# Altium integrated library Analog Devices Audio and Video Video Amps, Buffers and Filters.IntLib: 89 symbols (part 1 of 5)
Pins are listed as number, name and electrical type; pins without a type are passive.

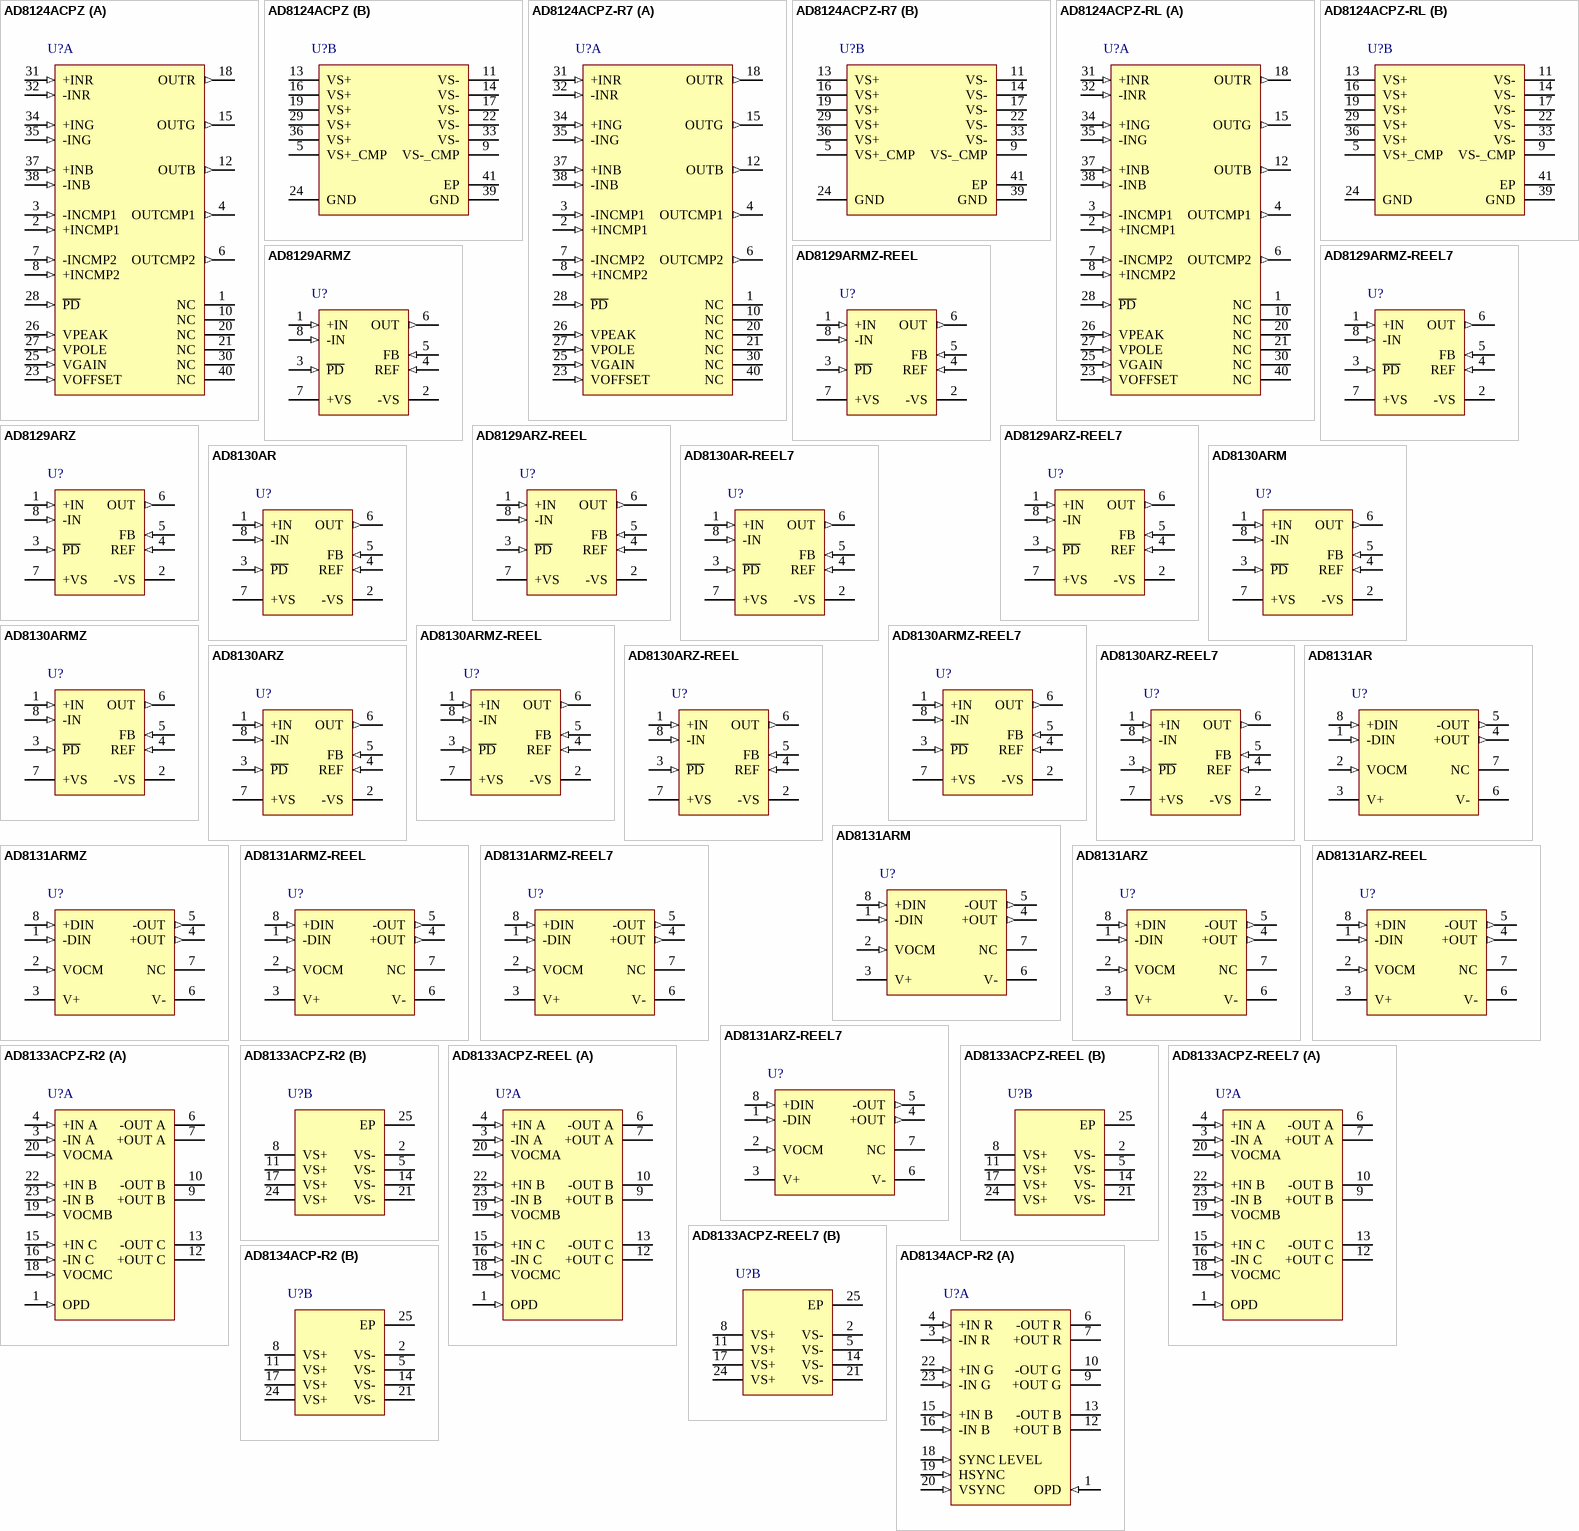
[diagram p0: symbols AD8124ACPZ to AD8134ACP-R2]

## AD8124ACPZ
designator U?
Triple Differential Receiver with 200 Meter Adjustable Cable Equalization, 4.5 to 5.5 V Supply, 110 MHz Bandwidth, 40-pin QFN (CP-40-4), Tray; Manufacturer: Analog Devices; PartNumber: AD8124ACPZ; -3dB Bandwidth: 52MHz; Max Pos Supply: 5.5V; Min Pos Supply: 4.5V; DatasheetVersion: Rev. 0; PackageVersion: 080107-A, 08/2007; PackageReference: CP-40-4; PackageDescription: 40-Pin Lead Frame Chip Scale Package, Body 6 x 6 mm, Pitch 0.5 mm; Supplier 1: Digi-Key; Supplier Part Number 1: AD8124ACPZ-ND; Supplier 2: Farnell; Supplier Part Number 2: 1897105; Supplier 3: Newark; Supplier Part Number 3: 31T9312; Supplier 4: Mouser; Supplier Part Number 4: 584-AD8124ACPZ; Packing: Tray; Mounting Technology: Surface Mount; Code_JEDEC: MO-220-VJJD-2; ComponentLink1Description: Manufacturer URL; ComponentLink1URL: http://www.analog.com/en/index.html; ComponentLink2Description: Datasheet; ComponentLink2URL: http://www.analog.com/static/imported-files/data_sheets/AD8124.pdf; ComponentLink3Description: Package Specification; ComponentLink3URL: http:/www.analog.com/static/imported-files/packages/5297332792203067151CP_40_4.pdf; ComponentLink4Description: URL Link1; ComponentLink4URL: Product URL:http://www.analog.com/en/specialty-amplifiers/video-ampsbuffersfilters/ad8124/products/product.html
footprint ADI-CP-40-4_N (QFN, 40-Leads, Body 6x6mm, Pitch 0.5mm, Thermal Pad 4.3x4.3mm, IPC Medium Density)
footprint ADI-CP-40-4_L (QFN, 40-Leads, Body 6x6mm, Pitch 0.5mm, Thermal Pad 4.3x4.3mm, IPC High Density)
footprint ADI-CP-40-4_M (QFN, 40-Leads, Body 6x6mm, Pitch 0.5mm, Thermal Pad 4.3x4.3mm, IPC Low Density)
part A pins: 1 NC "No Internal Connection.", 2 +INCMP1 (in) "Positive Input, Comparator 1.", 3 -INCMP1 (in) "Negative Input, Comparator 1.", 4 OUTCMP1 (out) "Output, Comparator 1.", 6 OUTCMP2 (out) "Output, Comparator 2.", 7 -INCMP2 (in) "Negative Input, Comparator 2.", 8 +INCMP2 (in) "Positive Input, Comparator 2.", 10 NC "No Internal Connection.", 12 OUTB (out) "Output, Blue Channel.", 15 OUTG (out) "Output, Green Channel.", 18 OUTR (out) "Output, Red Channel.", 20 NC "No Internal Connection.", 21 NC "No Internal Connection.", 23 VOFFSET (in) "Output Offset Control Voltage.", 25 VGAIN (in) "Broadband Flat Gain Control Voltage.", 26 VPEAK (in) "Equalizer High Frequency Boost Control Voltage.", 27 VPOLE (in) "Equalizer Pole Location Adjustment Control Voltage.", 28 ~{PD} (in) "Power Down.", 30 NC "No Internal Connection.", 31 +INR (in) "Positive Input, Red Channel.", 32 -INR (in) "Negative Input, Red Channel.", 34 +ING (in) "Positive Input, Green Channel.", 35 -ING (in) "Negative Input, Green Channel.", 37 +INB (in) "Positive Input, Blue Channel.", 38 -INB (in) "Negative Input, Blue Channel.", 40 NC "No Internal Connection."
part B pins: 5 VS+_CMP (power) "Positive Power Supply, Comparator. Must be connected to VS+.", 9 VS-_CMP (power) "Negative Power Supply, Comparator. Must be connected to VS-.", 11 VS- (power) "Negative Power Supply, Equalizer Sections.", 13 VS+ (power) "Positive Power Supply, Equalizer Sections.", 14 VS- (power) "Negative Power Supply, Equalizer Sections.", 16 VS+ (power) "Positive Power Supply, Equalizer Sections.", 17 VS- (power) "Negative Power Supply, Equalizer Sections.", 19 VS+ (power) "Positive Power Supply, Equalizer Sections.", 22 VS- (power) "Negative Power Supply, Equalizer Sections.", 24 GND (power) "Signal Ground Reference.", 29 VS+ (power) "Positive Power Supply, Equalizer Sections.", 33 VS- (power) "Negative Power Supply, Equalizer Sections.", 36 VS+ (power) "Positive Power Supply, Equalizer Sections.", 39 GND (power) "Signal Ground Reference.", 41 EP "Thermal Plane Connection. Connect to any PCB plane with voltage between VS+ and VS-."

## AD8124ACPZ-R7
designator U?
Triple Differential Receiver with 200 Meter Adjustable Cable Equalization, 4.5 to 5.5 V Supply, 110 MHz Bandwidth, 40-pin QFN (CP-40-4), Reel; Manufacturer: Analog Devices; PartNumber: AD8124ACPZ-R7; -3dB Bandwidth: 52MHz; Max Pos Supply: 5.5V; Min Pos Supply: 4.5V; DatasheetVersion: Rev. 0; PackageVersion: 080107-A, 08/2007; PackageReference: CP-40-4; PackageDescription: 40-Pin Lead Frame Chip Scale Package, Body 6 x 6 mm, Pitch 0.5 mm; Supplier 1: Digi-Key; Supplier Part Number 1: AD8124ACPZ-R7-ND; Supplier 2: Newark; Supplier Part Number 2: 31T9313; Supplier 3: Mouser; Supplier Part Number 3: 584-AD8124ACPZ-R7; Packing: Reel; Mounting Technology: Surface Mount; Code_JEDEC: MO-220-VJJD-2; ComponentLink1Description: Manufacturer URL; ComponentLink1URL: http://www.analog.com/en/index.html; ComponentLink2Description: Datasheet; ComponentLink2URL: http://www.analog.com/static/imported-files/data_sheets/AD8124.pdf; ComponentLink3Description: Package Specification; ComponentLink3URL: http:/www.analog.com/static/imported-files/packages/5297332792203067151CP_40_4.pdf; ComponentLink4Description: URL Link1; ComponentLink4URL: Product URL:http://www.analog.com/en/specialty-amplifiers/video-ampsbuffersfilters/ad8124/products/product.html
footprint ADI-CP-40-4_N (QFN, 40-Leads, Body 6x6mm, Pitch 0.5mm, Thermal Pad 4.3x4.3mm, IPC Medium Density)
footprint ADI-CP-40-4_L (QFN, 40-Leads, Body 6x6mm, Pitch 0.5mm, Thermal Pad 4.3x4.3mm, IPC High Density)
footprint ADI-CP-40-4_M (QFN, 40-Leads, Body 6x6mm, Pitch 0.5mm, Thermal Pad 4.3x4.3mm, IPC Low Density)
part A pins: 1 NC "No Internal Connection.", 2 +INCMP1 (in) "Positive Input, Comparator 1.", 3 -INCMP1 (in) "Negative Input, Comparator 1.", 4 OUTCMP1 (out) "Output, Comparator 1.", 6 OUTCMP2 (out) "Output, Comparator 2.", 7 -INCMP2 (in) "Negative Input, Comparator 2.", 8 +INCMP2 (in) "Positive Input, Comparator 2.", 10 NC "No Internal Connection.", 12 OUTB (out) "Output, Blue Channel.", 15 OUTG (out) "Output, Green Channel.", 18 OUTR (out) "Output, Red Channel.", 20 NC "No Internal Connection.", 21 NC "No Internal Connection.", 23 VOFFSET (in) "Output Offset Control Voltage.", 25 VGAIN (in) "Broadband Flat Gain Control Voltage.", 26 VPEAK (in) "Equalizer High Frequency Boost Control Voltage.", 27 VPOLE (in) "Equalizer Pole Location Adjustment Control Voltage.", 28 ~{PD} (in) "Power Down.", 30 NC "No Internal Connection.", 31 +INR (in) "Positive Input, Red Channel.", 32 -INR (in) "Negative Input, Red Channel.", 34 +ING (in) "Positive Input, Green Channel.", 35 -ING (in) "Negative Input, Green Channel.", 37 +INB (in) "Positive Input, Blue Channel.", 38 -INB (in) "Negative Input, Blue Channel.", 40 NC "No Internal Connection."
part B pins: 5 VS+_CMP (power) "Positive Power Supply, Comparator. Must be connected to VS+.", 9 VS-_CMP (power) "Negative Power Supply, Comparator. Must be connected to VS-.", 11 VS- (power) "Negative Power Supply, Equalizer Sections.", 13 VS+ (power) "Positive Power Supply, Equalizer Sections.", 14 VS- (power) "Negative Power Supply, Equalizer Sections.", 16 VS+ (power) "Positive Power Supply, Equalizer Sections.", 17 VS- (power) "Negative Power Supply, Equalizer Sections.", 19 VS+ (power) "Positive Power Supply, Equalizer Sections.", 22 VS- (power) "Negative Power Supply, Equalizer Sections.", 24 GND (power) "Signal Ground Reference.", 29 VS+ (power) "Positive Power Supply, Equalizer Sections.", 33 VS- (power) "Negative Power Supply, Equalizer Sections.", 36 VS+ (power) "Positive Power Supply, Equalizer Sections.", 39 GND (power) "Signal Ground Reference.", 41 EP "Thermal Plane Connection. Connect to any PCB plane with voltage between VS+ and VS-."

## AD8124ACPZ-RL
designator U?
Triple Differential Receiver with 200 Meter Adjustable Cable Equalization, 4.5 to 5.5 V Supply, 110 MHz Bandwidth, Industrial, 40-pin QFN (CP-40-4), Reel; Manufacturer: Analog Devices; PartNumber: AD8124ACPZ-RL; -3dB Bandwidth: 52MHz; Max Pos Supply: 5.5V; Min Pos Supply: 4.5V; DatasheetVersion: Rev. 0; PackageVersion: 080107-A, 08/2007; PackageReference: CP-40-4; PackageDescription: 40-Pin Lead Frame Chip Scale Package, Body 6 x 6 mm, Pitch 0.5 mm; Supplier 1: Mouser; Supplier Part Number 1: N/A; Packing: Reel; Mounting Technology: Surface Mount; Code_JEDEC: MO-220-VJJD-2; ComponentLink1Description: Manufacturer URL; ComponentLink1URL: http://www.analog.com/en/index.html; ComponentLink2Description: Datasheet; ComponentLink2URL: http://www.analog.com/static/imported-files/data_sheets/AD8124.pdf; ComponentLink3Description: Package Specification; ComponentLink3URL: http:/www.analog.com/static/imported-files/packages/5297332792203067151CP_40_4.pdf; ComponentLink4Description: URL Link1; ComponentLink4URL: Product URL:http://www.analog.com/en/specialty-amplifiers/video-ampsbuffersfilters/ad8124/products/product.html
footprint ADI-CP-40-4_N (QFN, 40-Leads, Body 6x6mm, Pitch 0.5mm, Thermal Pad 4.3x4.3mm, IPC Medium Density)
footprint ADI-CP-40-4_L (QFN, 40-Leads, Body 6x6mm, Pitch 0.5mm, Thermal Pad 4.3x4.3mm, IPC High Density)
footprint ADI-CP-40-4_M (QFN, 40-Leads, Body 6x6mm, Pitch 0.5mm, Thermal Pad 4.3x4.3mm, IPC Low Density)
part A pins: 1 NC "No Internal Connection.", 2 +INCMP1 (in) "Positive Input, Comparator 1.", 3 -INCMP1 (in) "Negative Input, Comparator 1.", 4 OUTCMP1 (out) "Output, Comparator 1.", 6 OUTCMP2 (out) "Output, Comparator 2.", 7 -INCMP2 (in) "Negative Input, Comparator 2.", 8 +INCMP2 (in) "Positive Input, Comparator 2.", 10 NC "No Internal Connection.", 12 OUTB (out) "Output, Blue Channel.", 15 OUTG (out) "Output, Green Channel.", 18 OUTR (out) "Output, Red Channel.", 20 NC "No Internal Connection.", 21 NC "No Internal Connection.", 23 VOFFSET (in) "Output Offset Control Voltage.", 25 VGAIN (in) "Broadband Flat Gain Control Voltage.", 26 VPEAK (in) "Equalizer High Frequency Boost Control Voltage.", 27 VPOLE (in) "Equalizer Pole Location Adjustment Control Voltage.", 28 ~{PD} (in) "Power Down.", 30 NC "No Internal Connection.", 31 +INR (in) "Positive Input, Red Channel.", 32 -INR (in) "Negative Input, Red Channel.", 34 +ING (in) "Positive Input, Green Channel.", 35 -ING (in) "Negative Input, Green Channel.", 37 +INB (in) "Positive Input, Blue Channel.", 38 -INB (in) "Negative Input, Blue Channel.", 40 NC "No Internal Connection."
part B pins: 5 VS+_CMP (power) "Positive Power Supply, Comparator. Must be connected to VS+.", 9 VS-_CMP (power) "Negative Power Supply, Comparator. Must be connected to VS-.", 11 VS- (power) "Negative Power Supply, Equalizer Sections.", 13 VS+ (power) "Positive Power Supply, Equalizer Sections.", 14 VS- (power) "Negative Power Supply, Equalizer Sections.", 16 VS+ (power) "Positive Power Supply, Equalizer Sections.", 17 VS- (power) "Negative Power Supply, Equalizer Sections.", 19 VS+ (power) "Positive Power Supply, Equalizer Sections.", 22 VS- (power) "Negative Power Supply, Equalizer Sections.", 24 GND (power) "Signal Ground Reference.", 29 VS+ (power) "Positive Power Supply, Equalizer Sections.", 33 VS- (power) "Negative Power Supply, Equalizer Sections.", 36 VS+ (power) "Positive Power Supply, Equalizer Sections.", 39 GND (power) "Signal Ground Reference.", 41 EP "Thermal Plane Connection. Connect to any PCB plane with voltage between VS+ and VS-."

## AD8129ARMZ
designator U?
Low Cost Differential Receiver Amplifier, 2.25 to 12.6 V Supply, 200 MHz Bandwidth, Industrial, 8-pin SOP (RM-8), Tube; Manufacturer: Analog Devices; PartNumber: AD8129ARMZ; -3dB Bandwidth: 185MHz, 190MHz, 195MHz; 0.1 dB Flatness (MHz): 40, 50, 70; Max Pos Supply: 12.6V, 12.6V, 12.6V; Min Pos Supply: 2.25V, 2.25V, 2.25V; Minimum Gain (Acl): 10; Slew Rate (V/us): 930, 1060, 1070; DatasheetVersion: Rev. C; PackageVersion: Aug-05; PackageReference: RM-8; PackageDescription: 8-Pin Mini Small Outline Package, Body 3 x 3 mm, Pitch 0.65 mm; Supplier 1: Digi-Key; Supplier Part Number 1: AD8129ARMZ-ND; Supplier 2: Farnell; Supplier Part Number 2: 1651275; Supplier 3: Newark; Supplier Part Number 3: 59K6384; Supplier 4: Mouser; Supplier Part Number 4: 584-AD8129ARMZ; Packing: Tube; Mounting Technology: Surface Mount; Code_JEDEC: MO-187-AA; ComponentLink1Description: Manufacturer URL; ComponentLink1URL: http://www.analog.com/en/index.html; ComponentLink2Description: Datasheet; ComponentLink2URL: http://www.analog.com/static/imported-files/data_sheets/AD8129_8130.pdf; ComponentLink3Description: Package Specification; ComponentLink3URL: http://www.analog.com/static/imported-files/packages/PKG_PDF/MSOP%28RM%29/RM_8.pdf; ComponentLink4Description: URL Link1; ComponentLink4URL: Product URL:http://www.analog.com/en/specialty-amplifiers/video-ampsbuffersfilters/ad8129/products/product.html
footprint ADI-RM-8_N (SOP, 8-Leads, Body 3x3mm, Pitch 0.65mm, IPC Medium Density)
footprint ADI-RM-8_L (SOP, 8-Leads, Body 3x3mm, Pitch 0.65mm, IPC High Density)
footprint ADI-RM-8_M (SOP, 8-Leads, Body 3x3mm, Pitch 0.65mm, IPC Low Density)
pins: 1 +IN (in), 2 -VS (power), 3 ~{PD} (in), 4 REF (in), 5 FB (in), 6 OUT (out), 7 +VS (power), 8 -IN (in)

## AD8129ARMZ-REEL
designator U?
Low Cost Differential Receiver Amplifier, 2.25 to 12.6 V Supply, 200 MHz Bandwidth, Industrial, 8-pin SOP (RM-8), Reel; Manufacturer: Analog Devices; PartNumber: AD8129ARMZ-REEL; -3dB Bandwidth: 185MHz, 190MHz, 195MHz; 0.1 dB Flatness (MHz): 40, 50, 70; Max Pos Supply: 12.6V, 12.6V, 12.6V; Min Pos Supply: 2.25V, 2.25V, 2.25V; Minimum Gain (Acl): 10; Slew Rate (V/us): 930, 1060, 1070; DatasheetVersion: Rev. C; PackageVersion: Aug-05; PackageReference: RM-8; PackageDescription: 8-Pin Mini Small Outline Package, Body 3 x 3 mm, Pitch 0.65 mm; Supplier 1: Digi-Key; Supplier Part Number 1: AD8129ARMZ-REEL-ND; Supplier 2: Mouser; Supplier Part Number 2: 584-AD8129ARMZ-R; Packing: Reel; Mounting Technology: Surface Mount; Code_JEDEC: MO-187-AA; ComponentLink1Description: Manufacturer URL; ComponentLink1URL: http://www.analog.com/en/index.html; ComponentLink2Description: Datasheet; ComponentLink2URL: http://www.analog.com/static/imported-files/data_sheets/AD8129_8130.pdf; ComponentLink3Description: Package Specification; ComponentLink3URL: http://www.analog.com/static/imported-files/packages/PKG_PDF/MSOP%28RM%29/RM_8.pdf; ComponentLink4Description: URL Link1; ComponentLink4URL: Product URL:http://www.analog.com/en/specialty-amplifiers/video-ampsbuffersfilters/ad8129/products/product.html
footprint ADI-RM-8_N (SOP, 8-Leads, Body 3x3mm, Pitch 0.65mm, IPC Medium Density)
footprint ADI-RM-8_L (SOP, 8-Leads, Body 3x3mm, Pitch 0.65mm, IPC High Density)
footprint ADI-RM-8_M (SOP, 8-Leads, Body 3x3mm, Pitch 0.65mm, IPC Low Density)
pins: 1 +IN (in), 2 -VS (power), 3 ~{PD} (in), 4 REF (in), 5 FB (in), 6 OUT (out), 7 +VS (power), 8 -IN (in)

## AD8129ARMZ-REEL7
designator U?
Low Cost Differential Receiver Amplifier, 2.25 to 12.6 V Supply, 200 MHz Bandwidth, Industrial, 8-pin SOP (RM-8), Reel; Manufacturer: Analog Devices; PartNumber: AD8129ARMZ-REEL7; -3dB Bandwidth: 185MHz, 190MHz, 195MHz; 0.1 dB Flatness (MHz): 40, 50, 70; Max Pos Supply: 12.6V, 12.6V, 12.6V; Min Pos Supply: 2.25V, 2.25V, 2.25V; Minimum Gain (Acl): 10; Slew Rate (V/us): 930, 1060, 1070; DatasheetVersion: Rev. C; PackageVersion: Aug-05; PackageReference: RM-8; PackageDescription: 8-Pin Mini Small Outline Package, Body 3 x 3 mm, Pitch 0.65 mm; Supplier 1: Digi-Key; Supplier Part Number 1: AD8129ARMZ-REEL7-ND; Supplier 2: Mouser; Supplier Part Number 2: 584-AD8129ARMZ-R7; Packing: Reel; Mounting Technology: Surface Mount; Code_JEDEC: MO-187-AA; ComponentLink1Description: Manufacturer URL; ComponentLink1URL: http://www.analog.com/en/index.html; ComponentLink2Description: Datasheet; ComponentLink2URL: http://www.analog.com/static/imported-files/data_sheets/AD8129_8130.pdf; ComponentLink3Description: Package Specification; ComponentLink3URL: http://www.analog.com/static/imported-files/packages/PKG_PDF/MSOP%28RM%29/RM_8.pdf; ComponentLink4Description: URL Link1; ComponentLink4URL: Product URL:http://www.analog.com/en/specialty-amplifiers/video-ampsbuffersfilters/ad8129/products/product.html
footprint ADI-RM-8_N (SOP, 8-Leads, Body 3x3mm, Pitch 0.65mm, IPC Medium Density)
footprint ADI-RM-8_L (SOP, 8-Leads, Body 3x3mm, Pitch 0.65mm, IPC High Density)
footprint ADI-RM-8_M (SOP, 8-Leads, Body 3x3mm, Pitch 0.65mm, IPC Low Density)
pins: 1 +IN (in), 2 -VS (power), 3 ~{PD} (in), 4 REF (in), 5 FB (in), 6 OUT (out), 7 +VS (power), 8 -IN (in)

## AD8129ARZ
designator U?
Low Cost Differential Receiver Amplifier, 2.25 to 12.6 V Supply, 200 MHz Bandwidth, Industrial, 8-pin SOIC (R-8), Tube; Manufacturer: Analog Devices; PartNumber: AD8129ARZ; -3dB Bandwidth: 185MHz, 190MHz, 195MHz; 0.1 dB Flatness (MHz): 25, 30, 50; Max Pos Supply: 12.6V, 12.6V, 12.6V; Min Pos Supply: 2.25V, 2.25V, 2.25V; Minimum Gain (Acl): 10; Slew Rate (V/us): 930, 1060, 1070; DatasheetVersion: Rev. C; PackageVersion: 060506-A, 06/2006; PackageReference: R-8; PackageDescription: 8-Pin Standard Small Outline Package, Body 4.9 x 3.9 mm, Pitch 1.27 mm; Supplier 1: Digi-Key; Supplier Part Number 1: AD8129ARZ-ND; Supplier 2: Farnell; Supplier Part Number 2: 1651276; Supplier 3: Newark; Supplier Part Number 3: 59K6387; Supplier 4: Mouser; Supplier Part Number 4: 584-AD8129ARZ; Packing: Tube; Mounting Technology: Surface Mount; Code_JEDEC: MS-012-AA; ComponentLink1Description: Manufacturer URL; ComponentLink1URL: http://www.analog.com/en/index.html; ComponentLink2Description: Datasheet; ComponentLink2URL: http://www.analog.com/static/imported-files/data_sheets/AD8129_8130.pdf; ComponentLink3Description: Package Specification; ComponentLink3URL: http://www.analog.com/static/imported-files/packages/PKG_PDF/SOIC_Narrow%20(R)/R_8.pdf; ComponentLink4Description: URL Link1; ComponentLink4URL: Product URL:http://www.analog.com/en/specialty-amplifiers/video-ampsbuffersfilters/ad8129/products/product.html
footprint ADI-R-8_N (SOIC, 8-Leads, Body 4.9x3.9mm, Pitch 1.27mm, IPC Medium Density)
footprint ADI-R-8_L (SOIC, 8-Leads, Body 4.9x3.9mm, Pitch 1.27mm, IPC High Density)
footprint ADI-R-8_M (SOIC, 8-Leads, Body 4.9x3.9mm, Pitch 1.27mm, IPC Low Density)
pins: 1 +IN (in), 2 -VS (power), 3 ~{PD} (in), 4 REF (in), 5 FB (in), 6 OUT (out), 7 +VS (power), 8 -IN (in)

## AD8129ARZ-REEL
designator U?
Low Cost Differential Receiver Amplifier, 2.25 to 12.6 V Supply, 200 MHz Bandwidth, Industrial, 8-pin SOIC (R-8), Reel; Manufacturer: Analog Devices; PartNumber: AD8129ARZ-REEL; -3dB Bandwidth: 185MHz, 190MHz, 195MHz; 0.1 dB Flatness (MHz): 25, 30, 50; Max Pos Supply: 12.6V, 12.6V, 12.6V; Min Pos Supply: 2.25V, 2.25V, 2.25V; Minimum Gain (Acl): 10; Slew Rate (V/us): 930, 1060, 1070; DatasheetVersion: Rev. C; PackageVersion: 060506-A, 06/2006; PackageReference: R-8; PackageDescription: 8-Pin Standard Small Outline Package, Body 4.9 x 3.9 mm, Pitch 1.27 mm; Supplier 1: Digi-Key; Supplier Part Number 1: AD8129ARZ-REEL-ND; Supplier 2: Mouser; Supplier Part Number 2: 584-AD8129ARZ-R; Packing: Reel; Mounting Technology: Surface Mount; Code_JEDEC: MS-012-AA; ComponentLink1Description: Manufacturer URL; ComponentLink1URL: http://www.analog.com/en/index.html; ComponentLink2Description: Datasheet; ComponentLink2URL: http://www.analog.com/static/imported-files/data_sheets/AD8129_8130.pdf; ComponentLink3Description: Package Specification; ComponentLink3URL: http://www.analog.com/static/imported-files/packages/PKG_PDF/SOIC_Narrow%20(R)/R_8.pdf; ComponentLink4Description: URL Link1; ComponentLink4URL: Product URL:http://www.analog.com/en/specialty-amplifiers/video-ampsbuffersfilters/ad8129/products/product.html
footprint ADI-R-8_N (SOIC, 8-Leads, Body 4.9x3.9mm, Pitch 1.27mm, IPC Medium Density)
footprint ADI-R-8_L (SOIC, 8-Leads, Body 4.9x3.9mm, Pitch 1.27mm, IPC High Density)
footprint ADI-R-8_M (SOIC, 8-Leads, Body 4.9x3.9mm, Pitch 1.27mm, IPC Low Density)
pins: 1 +IN (in), 2 -VS (power), 3 ~{PD} (in), 4 REF (in), 5 FB (in), 6 OUT (out), 7 +VS (power), 8 -IN (in)

## AD8129ARZ-REEL7
designator U?
Low Cost Differential Receiver Amplifier, 2.25 to 12.6 V Supply, 200 MHz Bandwidth, Industrial, 8-pin SOIC (R-8), Reel; Manufacturer: Analog Devices; PartNumber: AD8129ARZ-REEL7; -3dB Bandwidth: 185MHz, 190MHz, 195MHz; 0.1 dB Flatness (MHz): 25, 30, 50; Max Pos Supply: 12.6V, 12.6V, 12.6V; Min Pos Supply: 2.25V, 2.25V, 2.25V; Minimum Gain (Acl): 10; Slew Rate (V/us): 930, 1060, 1070; DatasheetVersion: Rev. C; PackageVersion: 060506-A, 06/2006; PackageReference: R-8; PackageDescription: 8-Pin Standard Small Outline Package, Body 4.9 x 3.9 mm, Pitch 1.27 mm; Supplier 1: Digi-Key; Supplier Part Number 1: AD8129ARZ-REEL7-ND; Supplier 2: Mouser; Supplier Part Number 2: 584-AD8129ARZ-R7; Packing: Reel; Mounting Technology: Surface Mount; Code_JEDEC: MS-012-AA; ComponentLink1Description: Manufacturer URL; ComponentLink1URL: http://www.analog.com/en/index.html; ComponentLink2Description: Datasheet; ComponentLink2URL: http://www.analog.com/static/imported-files/data_sheets/AD8129_8130.pdf; ComponentLink3Description: Package Specification; ComponentLink3URL: http://www.analog.com/static/imported-files/packages/PKG_PDF/SOIC_Narrow%20(R)/R_8.pdf; ComponentLink4Description: URL Link1; ComponentLink4URL: Product URL:http://www.analog.com/en/specialty-amplifiers/video-ampsbuffersfilters/ad8129/products/product.html
footprint ADI-R-8_N (SOIC, 8-Leads, Body 4.9x3.9mm, Pitch 1.27mm, IPC Medium Density)
footprint ADI-R-8_L (SOIC, 8-Leads, Body 4.9x3.9mm, Pitch 1.27mm, IPC High Density)
footprint ADI-R-8_M (SOIC, 8-Leads, Body 4.9x3.9mm, Pitch 1.27mm, IPC Low Density)
pins: 1 +IN (in), 2 -VS (power), 3 ~{PD} (in), 4 REF (in), 5 FB (in), 6 OUT (out), 7 +VS (power), 8 -IN (in)

## AD8130AR
designator U?
Low Cost Differential Receiver Amplifier, 2.25 to 12.6 V Supply, 270 MHz Bandwidth, Industrial, 8-pin SOIC (R-8), Tube; Manufacturer: Analog Devices; PartNumber: AD8130AR; -3dB Bandwidth: 205MHz, 155MHz, 175MHz; 0.1 dB Flatness (MHz): 25, 45, 110; Max Pos Supply: 12.6V, 12.6V, 12.6V; Min Pos Supply: 2.25V, 2.25V, 2.25V; Minimum Gain (Acl): 1; Slew Rate (V/us): 930, 1090, 1100; DatasheetVersion: Rev. C; PackageVersion: 060506-A, 06/2006; PackageReference: R-8; PackageDescription: 8-Pin Standard Small Outline Package, Body 4.9 x 3.9 mm, Pitch 1.27 mm; Supplier 1: Digi-Key; Supplier Part Number 1: AD8130AR-ND; Supplier 2: Mouser; Supplier Part Number 2: 584-AD8130AR; Packing: Tube; Mounting Technology: Surface Mount; Code_JEDEC: MS-012-AA; ComponentLink1Description: Manufacturer URL; ComponentLink1URL: http://www.analog.com/en/index.html; ComponentLink2Description: Datasheet; ComponentLink2URL: http://www.analog.com/static/imported-files/data_sheets/AD8129_8130.pdf; ComponentLink3Description: Package Specification; ComponentLink3URL: http://www.analog.com/static/imported-files/packages/PKG_PDF/SOIC_Narrow%20(R)/R_8.pdf; ComponentLink4Description: URL Link1; ComponentLink4URL: Product URL:http://www.analog.com/en/specialty-amplifiers/video-ampsbuffersfilters/ad8130/products/product.html
footprint ADI-R-8_N (SOIC, 8-Leads, Body 4.9x3.9mm, Pitch 1.27mm, IPC Medium Density)
footprint ADI-R-8_L (SOIC, 8-Leads, Body 4.9x3.9mm, Pitch 1.27mm, IPC High Density)
footprint ADI-R-8_M (SOIC, 8-Leads, Body 4.9x3.9mm, Pitch 1.27mm, IPC Low Density)
pins: 1 +IN (in), 2 -VS (power), 3 ~{PD} (in), 4 REF (in), 5 FB (in), 6 OUT (out), 7 +VS (power), 8 -IN (in)

## AD8130AR-REEL7
designator U?
Low Cost Differential Receiver Amplifier, 2.25 to 12.6 V Supply, 270 MHz Bandwidth, Industrial, 8-pin SOIC (R-8), Reel; Manufacturer: Analog Devices; PartNumber: AD8130AR-REEL7; -3dB Bandwidth: 205MHz, 155MHz, 175MHz; 0.1 dB Flatness (MHz): 25, 45, 110; Max Pos Supply: 12.6V, 12.6V, 12.6V; Min Pos Supply: 2.25V, 2.25V, 2.25V; Minimum Gain (Acl): 1; Slew Rate (V/us): 930, 1090, 1100; DatasheetVersion: Rev. C; PackageVersion: 060506-A, 06/2006; PackageReference: R-8; PackageDescription: 8-Pin Standard Small Outline Package, Body 4.9 x 3.9 mm, Pitch 1.27 mm; Supplier 1: Digi-Key; Supplier Part Number 1: AD8130AR-REEL7TR-ND; Supplier 2: Digi-Key; Supplier Part Number 2: AD8130AR-REEL7CT-ND; Supplier 3: Digi-Key; Supplier Part Number 3: AD8130AR-REEL7DKR-ND; Supplier 4: Newark; Supplier Part Number 4: 02H1858; Supplier 5: Mouser; Supplier Part Number 5: 584-AD8130AR-R7; Packing: Reel; Mounting Technology: Surface Mount; Code_JEDEC: MS-012-AA; ComponentLink1Description: Manufacturer URL; ComponentLink1URL: http://www.analog.com/en/index.html; ComponentLink2Description: Datasheet; ComponentLink2URL: http://www.analog.com/static/imported-files/data_sheets/AD8129_8130.pdf; ComponentLink3Description: Package Specification; ComponentLink3URL: http://www.analog.com/static/imported-files/packages/PKG_PDF/SOIC_Narrow%20(R)/R_8.pdf; ComponentLink4Description: URL Link1; ComponentLink4URL: Product URL:http://www.analog.com/en/specialty-amplifiers/video-ampsbuffersfilters/ad8130/products/product.html
footprint ADI-R-8_N (SOIC, 8-Leads, Body 4.9x3.9mm, Pitch 1.27mm, IPC Medium Density)
footprint ADI-R-8_L (SOIC, 8-Leads, Body 4.9x3.9mm, Pitch 1.27mm, IPC High Density)
footprint ADI-R-8_M (SOIC, 8-Leads, Body 4.9x3.9mm, Pitch 1.27mm, IPC Low Density)
pins: 1 +IN (in), 2 -VS (power), 3 ~{PD} (in), 4 REF (in), 5 FB (in), 6 OUT (out), 7 +VS (power), 8 -IN (in)

## AD8130ARM
designator U?
Low Cost Differential Receiver Amplifier, 2.25 to 12.6 V Supply, 270 MHz Bandwidth, Industrial, 8-pin SOP (RM-8), Tube; Manufacturer: Analog Devices; PartNumber: AD8130ARM; -3dB Bandwidth: 205MHz, 155MHz, 175MHz; 0.1 dB Flatness (MHz): 25, 45, 110; Max Pos Supply: 12.6V, 12.6V, 12.6V; Min Pos Supply: 2.25V, 2.25V, 2.25V; Minimum Gain (Acl): 1; Slew Rate (V/us): 930, 1090, 1100; DatasheetVersion: Rev. C; PackageVersion: Aug-05; PackageReference: RM-8; PackageDescription: 8-Pin Mini Small Outline Package, Body 3 x 3 mm, Pitch 0.65 mm; Supplier 1: Digi-Key; Supplier Part Number 1: AD8130ARM-ND; Supplier 2: Mouser; Supplier Part Number 2: 584-AD8130ARM; Packing: Tube; Mounting Technology: Surface Mount; Code_JEDEC: MO-187-AA; ComponentLink1Description: Manufacturer URL; ComponentLink1URL: http://www.analog.com/en/index.html; ComponentLink2Description: Datasheet; ComponentLink2URL: http://www.analog.com/static/imported-files/data_sheets/AD8129_8130.pdf; ComponentLink3Description: Package Specification; ComponentLink3URL: http://www.analog.com/static/imported-files/packages/PKG_PDF/MSOP%28RM%29/RM_8.pdf; ComponentLink4Description: URL Link1; ComponentLink4URL: Product URL:http://www.analog.com/en/specialty-amplifiers/video-ampsbuffersfilters/ad8130/products/product.html
footprint ADI-RM-8_N (SOP, 8-Leads, Body 3x3mm, Pitch 0.65mm, IPC Medium Density)
footprint ADI-RM-8_L (SOP, 8-Leads, Body 3x3mm, Pitch 0.65mm, IPC High Density)
footprint ADI-RM-8_M (SOP, 8-Leads, Body 3x3mm, Pitch 0.65mm, IPC Low Density)
pins: 1 +IN (in), 2 -VS (power), 3 ~{PD} (in), 4 REF (in), 5 FB (in), 6 OUT (out), 7 +VS (power), 8 -IN (in)

## AD8130ARMZ
designator U?
Low Cost Differential Receiver Amplifier, 2.25 to 12.6 V Supply, 270 MHz Bandwidth, Industrial, 8-pin SOP (RM-8), Tube; Manufacturer: Analog Devices; PartNumber: AD8130ARMZ; -3dB Bandwidth: 205MHz, 155MHz, 175MHz; 0.1 dB Flatness (MHz): 25, 45, 110; Max Pos Supply: 12.6V, 12.6V, 12.6V; Min Pos Supply: 2.25V, 2.25V, 2.25V; Minimum Gain (Acl): 1; Slew Rate (V/us): 930, 1090, 1100; DatasheetVersion: Rev. C; PackageVersion: Aug-05; PackageReference: RM-8; PackageDescription: 8-Pin Mini Small Outline Package, Body 3 x 3 mm, Pitch 0.65 mm; Supplier 1: Digi-Key; Supplier Part Number 1: AD8130ARMZ-ND; Supplier 2: Farnell; Supplier Part Number 2: 1660990; Supplier 3: Newark; Supplier Part Number 3: 59K6394; Supplier 4: Mouser; Supplier Part Number 4: 584-AD8130ARMZ; Packing: Tube; Mounting Technology: Surface Mount; Code_JEDEC: MO-187-AA; ComponentLink1Description: Manufacturer URL; ComponentLink1URL: http://www.analog.com/en/index.html; ComponentLink2Description: Datasheet; ComponentLink2URL: http://www.analog.com/static/imported-files/data_sheets/AD8129_8130.pdf; ComponentLink3Description: Package Specification; ComponentLink3URL: http://www.analog.com/static/imported-files/packages/PKG_PDF/MSOP%28RM%29/RM_8.pdf; ComponentLink4Description: URL Link1; ComponentLink4URL: Product URL:http://www.analog.com/en/specialty-amplifiers/video-ampsbuffersfilters/ad8130/products/product.html
footprint ADI-RM-8_N (SOP, 8-Leads, Body 3x3mm, Pitch 0.65mm, IPC Medium Density)
footprint ADI-RM-8_L (SOP, 8-Leads, Body 3x3mm, Pitch 0.65mm, IPC High Density)
footprint ADI-RM-8_M (SOP, 8-Leads, Body 3x3mm, Pitch 0.65mm, IPC Low Density)
pins: 1 +IN (in), 2 -VS (power), 3 ~{PD} (in), 4 REF (in), 5 FB (in), 6 OUT (out), 7 +VS (power), 8 -IN (in)

## AD8130ARMZ-REEL
designator U?
Low Cost Differential Receiver Amplifier, 2.25 to 12.6 V Supply, 270 MHz Bandwidth, Industrial, 8-pin SOP (RM-8), Reel; Manufacturer: Analog Devices; PartNumber: AD8130ARMZ-REEL; -3dB Bandwidth: 205MHz, 155MHz, 175MHz; 0.1 dB Flatness (MHz): 25, 45, 110; Max Pos Supply: 12.6V, 12.6V, 12.6V; Min Pos Supply: 2.25V, 2.25V, 2.25V; Minimum Gain (Acl): 1; Slew Rate (V/us): 930, 1090, 1100; DatasheetVersion: Rev. C; PackageVersion: Aug-05; PackageReference: RM-8; PackageDescription: 8-Pin Mini Small Outline Package, Body 3 x 3 mm, Pitch 0.65 mm; Supplier 1: Digi-Key; Supplier Part Number 1: AD8130ARMZ-REEL-ND; Supplier 2: Newark; Supplier Part Number 2: 59K6395; Supplier 3: Mouser; Supplier Part Number 3: 584-AD8130ARMZ-R; Packing: Reel; Mounting Technology: Surface Mount; Code_JEDEC: MO-187-AA; ComponentLink1Description: Manufacturer URL; ComponentLink1URL: http://www.analog.com/en/index.html; ComponentLink2Description: Datasheet; ComponentLink2URL: http://www.analog.com/static/imported-files/data_sheets/AD8129_8130.pdf; ComponentLink3Description: Package Specification; ComponentLink3URL: http://www.analog.com/static/imported-files/packages/PKG_PDF/MSOP%28RM%29/RM_8.pdf; ComponentLink4Description: URL Link1; ComponentLink4URL: Product URL:http://www.analog.com/en/specialty-amplifiers/video-ampsbuffersfilters/ad8130/products/product.html
footprint ADI-RM-8_N (SOP, 8-Leads, Body 3x3mm, Pitch 0.65mm, IPC Medium Density)
footprint ADI-RM-8_L (SOP, 8-Leads, Body 3x3mm, Pitch 0.65mm, IPC High Density)
footprint ADI-RM-8_M (SOP, 8-Leads, Body 3x3mm, Pitch 0.65mm, IPC Low Density)
pins: 1 +IN (in), 2 -VS (power), 3 ~{PD} (in), 4 REF (in), 5 FB (in), 6 OUT (out), 7 +VS (power), 8 -IN (in)

## AD8130ARMZ-REEL7
designator U?
Low Cost Differential Receiver Amplifier, 2.25 to 12.6 V Supply, 270 MHz Bandwidth, Industrial, 8-pin SOP (RM-8), Reel; Manufacturer: Analog Devices; PartNumber: AD8130ARMZ-REEL7; -3dB Bandwidth: 205MHz, 155MHz, 175MHz; 0.1 dB Flatness (MHz): 25, 45, 110; Max Pos Supply: 12.6V, 12.6V, 12.6V; Min Pos Supply: 2.25V, 2.25V, 2.25V; Minimum Gain (Acl): 1; Slew Rate (V/us): 930, 1090, 1100; DatasheetVersion: Rev. C; PackageVersion: Aug-05; PackageReference: RM-8; PackageDescription: 8-Pin Mini Small Outline Package, Body 3 x 3 mm, Pitch 0.65 mm; Supplier 1: Digi-Key; Supplier Part Number 1: AD8130ARMZ-REEL7TR-ND; Supplier 2: Digi-Key; Supplier Part Number 2: AD8130ARMZ-REEL7CT-ND; Supplier 3: Digi-Key; Supplier Part Number 3: AD8130ARMZ-REEL7DKR-ND; Supplier 4: Newark; Supplier Part Number 4: 59K6396; Supplier 5: Mouser; Supplier Part Number 5: 584-AD8130ARMZ-R7; Packing: Reel; Mounting Technology: Surface Mount; Code_JEDEC: MO-187-AA; ComponentLink1Description: Manufacturer URL; ComponentLink1URL: http://www.analog.com/en/index.html; ComponentLink2Description: Datasheet; ComponentLink2URL: http://www.analog.com/static/imported-files/data_sheets/AD8129_8130.pdf; ComponentLink3Description: Package Specification; ComponentLink3URL: http://www.analog.com/static/imported-files/packages/PKG_PDF/MSOP%28RM%29/RM_8.pdf; ComponentLink4Description: URL Link1; ComponentLink4URL: Product URL:http://www.analog.com/en/specialty-amplifiers/video-ampsbuffersfilters/ad8130/products/product.html
footprint ADI-RM-8_N (SOP, 8-Leads, Body 3x3mm, Pitch 0.65mm, IPC Medium Density)
footprint ADI-RM-8_L (SOP, 8-Leads, Body 3x3mm, Pitch 0.65mm, IPC High Density)
footprint ADI-RM-8_M (SOP, 8-Leads, Body 3x3mm, Pitch 0.65mm, IPC Low Density)
pins: 1 +IN (in), 2 -VS (power), 3 ~{PD} (in), 4 REF (in), 5 FB (in), 6 OUT (out), 7 +VS (power), 8 -IN (in)

## AD8130ARZ
designator U?
Low Cost Differential Receiver Amplifier, 2.25 to 12.6 V Supply, 270 MHz Bandwidth, Industrial, 8-pin SOIC (R-8), Tube; Manufacturer: Analog Devices; PartNumber: AD8130ARZ; -3dB Bandwidth: 205MHz, 155MHz, 175MHz; 0.1 dB Flatness (MHz): 25, 45, 110; Max Pos Supply: 12.6V, 12.6V, 12.6V; Min Pos Supply: 2.25V, 2.25V, 2.25V; Minimum Gain (Acl): 1; Slew Rate (V/us): 930, 1090, 1100; DatasheetVersion: Rev. C; PackageVersion: 060506-A, 06/2006; PackageReference: R-8; PackageDescription: 8-Pin Standard Small Outline Package, Body 4.9 x 3.9 mm, Pitch 1.27 mm; Supplier 1: Digi-Key; Supplier Part Number 1: AD8130ARZ-ND; Supplier 2: Farnell; Supplier Part Number 2: 9604278; Supplier 3: Newark; Supplier Part Number 3: 59K6397; Supplier 4: Mouser; Supplier Part Number 4: 584-AD8130ARZ; Packing: Tube; Mounting Technology: Surface Mount; Code_JEDEC: MS-012-AA; ComponentLink1Description: Manufacturer URL; ComponentLink1URL: http://www.analog.com/en/index.html; ComponentLink2Description: Datasheet; ComponentLink2URL: http://www.analog.com/static/imported-files/data_sheets/AD8129_8130.pdf; ComponentLink3Description: Package Specification; ComponentLink3URL: http://www.analog.com/static/imported-files/packages/PKG_PDF/SOIC_Narrow%20(R)/R_8.pdf; ComponentLink4Description: URL Link1; ComponentLink4URL: Product URL:http://www.analog.com/en/specialty-amplifiers/video-ampsbuffersfilters/ad8130/products/product.html
footprint ADI-R-8_N (SOIC, 8-Leads, Body 4.9x3.9mm, Pitch 1.27mm, IPC Medium Density)
footprint ADI-R-8_L (SOIC, 8-Leads, Body 4.9x3.9mm, Pitch 1.27mm, IPC High Density)
footprint ADI-R-8_M (SOIC, 8-Leads, Body 4.9x3.9mm, Pitch 1.27mm, IPC Low Density)
pins: 1 +IN (in), 2 -VS (power), 3 ~{PD} (in), 4 REF (in), 5 FB (in), 6 OUT (out), 7 +VS (power), 8 -IN (in)

## AD8130ARZ-REEL
designator U?
Low Cost Differential Receiver Amplifier, 2.25 to 12.6 V Supply, 270 MHz Bandwidth, Industrial, 8-pin SOIC (R-8), Reel; Manufacturer: Analog Devices; PartNumber: AD8130ARZ-REEL; -3dB Bandwidth: 205MHz, 155MHz, 175MHz; 0.1 dB Flatness (MHz): 25, 45, 110; Max Pos Supply: 12.6V, 12.6V, 12.6V; Min Pos Supply: 2.25V, 2.25V, 2.25V; Minimum Gain (Acl): 1; Slew Rate (V/us): 930, 1090, 1100; DatasheetVersion: Rev. C; PackageVersion: 060506-A, 06/2006; PackageReference: R-8; PackageDescription: 8-Pin Standard Small Outline Package, Body 4.9 x 3.9 mm, Pitch 1.27 mm; Supplier 1: Digi-Key; Supplier Part Number 1: AD8130ARZ-REELTR-ND; Supplier 2: Digi-Key; Supplier Part Number 2: AD8130ARZ-REELCT-ND; Supplier 3: Digi-Key; Supplier Part Number 3: AD8130ARZ-REELDKR-ND; Supplier 4: Newark; Supplier Part Number 4: 59K6398; Supplier 5: Mouser; Supplier Part Number 5: 584-AD8130ARZ-R; Packing: Reel; Mounting Technology: Surface Mount; Code_JEDEC: MS-012-AA; ComponentLink1Description: Manufacturer URL; ComponentLink1URL: http://www.analog.com/en/index.html; ComponentLink2Description: Datasheet; ComponentLink2URL: http://www.analog.com/static/imported-files/data_sheets/AD8129_8130.pdf; ComponentLink3Description: Package Specification; ComponentLink3URL: http://www.analog.com/static/imported-files/packages/PKG_PDF/SOIC_Narrow%20(R)/R_8.pdf; ComponentLink4Description: URL Link1; ComponentLink4URL: Product URL:http://www.analog.com/en/specialty-amplifiers/video-ampsbuffersfilters/ad8130/products/product.html
footprint ADI-R-8_N (SOIC, 8-Leads, Body 4.9x3.9mm, Pitch 1.27mm, IPC Medium Density)
footprint ADI-R-8_L (SOIC, 8-Leads, Body 4.9x3.9mm, Pitch 1.27mm, IPC High Density)
footprint ADI-R-8_M (SOIC, 8-Leads, Body 4.9x3.9mm, Pitch 1.27mm, IPC Low Density)
pins: 1 +IN (in), 2 -VS (power), 3 ~{PD} (in), 4 REF (in), 5 FB (in), 6 OUT (out), 7 +VS (power), 8 -IN (in)

## AD8130ARZ-REEL7
designator U?
Low Cost Differential Receiver Amplifier, 2.25 to 12.6 V Supply, 270 MHz Bandwidth, Industrial, 8-pin SOIC (R-8), Reel; Manufacturer: Analog Devices; PartNumber: AD8130ARZ-REEL7; -3dB Bandwidth: 205MHz, 155MHz, 175MHz; 0.1 dB Flatness (MHz): 25, 45, 110; Max Pos Supply: 12.6V, 12.6V, 12.6V; Min Pos Supply: 2.25V, 2.25V, 2.25V; Minimum Gain (Acl): 1; Slew Rate (V/us): 930, 1090, 1100; DatasheetVersion: Rev. C; PackageVersion: 060506-A, 06/2006; PackageReference: R-8; PackageDescription: 8-Pin Standard Small Outline Package, Body 4.9 x 3.9 mm, Pitch 1.27 mm; Supplier 1: Digi-Key; Supplier Part Number 1: AD8130ARZ-REEL7TR-ND; Supplier 2: Digi-Key; Supplier Part Number 2: AD8130ARZ-REEL7CT-ND; Supplier 3: Digi-Key; Supplier Part Number 3: AD8130ARZ-REEL7DKR-ND; Supplier 4: Newark; Supplier Part Number 4: 59K6399; Supplier 5: Mouser; Supplier Part Number 5: 584-AD8130ARZ-R7; Packing: Reel; Mounting Technology: Surface Mount; Code_JEDEC: MS-012-AA; ComponentLink1Description: Manufacturer URL; ComponentLink1URL: http://www.analog.com/en/index.html; ComponentLink2Description: Datasheet; ComponentLink2URL: http://www.analog.com/static/imported-files/data_sheets/AD8129_8130.pdf; ComponentLink3Description: Package Specification; ComponentLink3URL: http://www.analog.com/static/imported-files/packages/PKG_PDF/SOIC_Narrow%20(R)/R_8.pdf; ComponentLink4Description: URL Link1; ComponentLink4URL: Product URL:http://www.analog.com/en/specialty-amplifiers/video-ampsbuffersfilters/ad8130/products/product.html
footprint ADI-R-8_N (SOIC, 8-Leads, Body 4.9x3.9mm, Pitch 1.27mm, IPC Medium Density)
footprint ADI-R-8_L (SOIC, 8-Leads, Body 4.9x3.9mm, Pitch 1.27mm, IPC High Density)
footprint ADI-R-8_M (SOIC, 8-Leads, Body 4.9x3.9mm, Pitch 1.27mm, IPC Low Density)
pins: 1 +IN (in), 2 -VS (power), 3 ~{PD} (in), 4 REF (in), 5 FB (in), 6 OUT (out), 7 +VS (power), 8 -IN (in)

## AD8131AR
designator U?
Low-Cost, High Speed Differential Driver, 2.7 to 5 V Supply, 400 MHz Bandwidth, Industrial, 8-pin SOIC (R-8), Tube; Manufacturer: Analog Devices; PartNumber: AD8131AR; -3dB Bandwidth: 400MHz, 210MHz, 385MHz, 200MHz; 0.1 dB Flatness (MHz): 85, 65; Max Pos Supply: 5.5V, 11V; Min Pos Supply: 1.4V, 2.7V; Minimum Gain (Acl): 2; Slew Rate (V/us): 2000, 500, 1600, 450; DatasheetVersion: Rev. B; PackageVersion: 060506-A, 06/2006; PackageReference: R-8; PackageDescription: 8-Pin Standard Small Outline Package, Body 4.9 x 3.9 mm, Pitch 1.27 mm; Supplier 1: Digi-Key; Supplier Part Number 1: AD8131AR-ND; Supplier 2: Mouser; Supplier Part Number 2: 584-AD8131AR; Packing: Tube; Mounting Technology: Surface Mount; Code_JEDEC: MS-012-AA; ComponentLink1Description: Manufacturer URL; ComponentLink1URL: http://www.analog.com/en/index.html; ComponentLink2Description: Datasheet; ComponentLink2URL: http://www.analog.com/static/imported-files/data_sheets/AD8131.pdf; ComponentLink3Description: Package Specification; ComponentLink3URL: http://www.analog.com/static/imported-files/packages/PKG_PDF/SOIC_Narrow%20(R)/R_8.pdf; ComponentLink4Description: URL Link1; ComponentLink4URL: Product URL:http://www.analog.com/en/specialty-amplifiers/video-ampsbuffersfilters/ad8131/products/product.html
footprint ADI-R-8_N (SOIC, 8-Leads, Body 4.9x3.9mm, Pitch 1.27mm, IPC Medium Density)
footprint ADI-R-8_L (SOIC, 8-Leads, Body 4.9x3.9mm, Pitch 1.27mm, IPC High Density)
footprint ADI-R-8_M (SOIC, 8-Leads, Body 4.9x3.9mm, Pitch 1.27mm, IPC Low Density)
pins: 1 -DIN (in) "Negative Input.", 2 VOCM (in) "Common-Mode Output Voltage. Voltage applied to this pin sets the common-mode output voltage with a ratio of  1:1. For example, 1 V dc on VOCM will set the dc bias level on +OUT and -OUT to 1 V.", 3 V+ (power) "Positive Supply Voltage.", 4 +OUT (out) "Positive Output. Note: the voltage at -DIN is inverted at +OUT.", 5 -OUT (out) "Negative Output. Note: the voltage at +DIN is inverted at -OUT.", 6 V- (power) "Negative Supply Voltage.", 7 NC "No Connect.", 8 +DIN (in) "Positive Input."

## AD8131ARM
designator U?
Low-Cost, High Speed Differential Driver, 2.7 to 5 V Supply, 400 MHz Bandwidth, Industrial, 8-pin SOP (RM-8), Tube; Manufacturer: Analog Devices; PartNumber: AD8131ARM; -3dB Bandwidth: 400MHz, 210MHz, 385MHz, 200MHz; 0.1 dB Flatness (MHz): 85, 65; Max Pos Supply: 5.5V, 11V; Min Pos Supply: 1.4V, 2.7V; Minimum Gain (Acl): 2; Slew Rate (V/us): 2000, 500, 1600, 450; DatasheetVersion: Rev. B; PackageVersion: Aug-05; PackageReference: RM-8; PackageDescription: 8-Pin Mini Small Outline Package, Body 3 x 3 mm, Pitch 0.65 mm; Supplier 1: Digi-Key; Supplier Part Number 1: AD8131ARM-ND; Supplier 2: Mouser; Supplier Part Number 2: 584-AD8131ARM; Packing: Tube; Mounting Technology: Surface Mount; Code_JEDEC: MO-187-AA; ComponentLink1Description: Manufacturer URL; ComponentLink1URL: http://www.analog.com/en/index.html; ComponentLink2Description: Datasheet; ComponentLink2URL: http://www.analog.com/static/imported-files/data_sheets/AD8131.pdf; ComponentLink3Description: Package Specification; ComponentLink3URL: http://www.analog.com/static/imported-files/packages/PKG_PDF/MSOP%28RM%29/RM_8.pdf; ComponentLink4Description: URL Link1; ComponentLink4URL: Product URL:http://www.analog.com/en/specialty-amplifiers/video-ampsbuffersfilters/ad8131/products/product.html
footprint ADI-RM-8_N (SOP, 8-Leads, Body 3x3mm, Pitch 0.65mm, IPC Medium Density)
footprint ADI-RM-8_L (SOP, 8-Leads, Body 3x3mm, Pitch 0.65mm, IPC High Density)
footprint ADI-RM-8_M (SOP, 8-Leads, Body 3x3mm, Pitch 0.65mm, IPC Low Density)
pins: 1 -DIN (in) "Negative Input.", 2 VOCM (in) "Common-Mode Output Voltage. Voltage applied to this pin sets the common-mode output voltage with a ratio of  1:1. For example, 1 V dc on VOCM will set the dc bias level on +OUT and -OUT to 1 V.", 3 V+ (power) "Positive Supply Voltage.", 4 +OUT (out) "Positive Output. Note: the voltage at -DIN is inverted at +OUT.", 5 -OUT (out) "Negative Output. Note: the voltage at +DIN is inverted at -OUT.", 6 V- (power) "Negative Supply Voltage.", 7 NC "No Connect.", 8 +DIN (in) "Positive Input."

## AD8131ARMZ
designator U?
Low-Cost, High Speed Differential Driver, 2.7 to 5 V Supply, 400 MHz Bandwidth, Industrial, 8-pin SOP (RM-8), Tube; Manufacturer: Analog Devices; PartNumber: AD8131ARMZ; -3dB Bandwidth: 400MHz, 210MHz, 385MHz, 200MHz; 0.1 dB Flatness (MHz): 85, 65; Max Pos Supply: 5.5V, 11V; Min Pos Supply: 1.4V, 2.7V; Minimum Gain (Acl): 2; Slew Rate (V/us): 2000, 500, 1600, 450; DatasheetVersion: Rev. B; PackageVersion: Aug-05; PackageReference: RM-8; PackageDescription: 8-Pin Mini Small Outline Package, Body 3 x 3 mm, Pitch 0.65 mm; Supplier 1: Digi-Key; Supplier Part Number 1: AD8131ARMZ-ND; Supplier 2: Farnell; Supplier Part Number 2: 2305587; Supplier 3: Newark; Supplier Part Number 3: 90W0422; Supplier 4: Newark; Supplier Part Number 4: 82H2983; Supplier 5: Mouser; Supplier Part Number 5: 584-AD8131ARMZ; Packing: Tube; Mounting Technology: Surface Mount; Code_JEDEC: MO-187-AA; ComponentLink1Description: Manufacturer URL; ComponentLink1URL: http://www.analog.com/en/index.html; ComponentLink2Description: Datasheet; ComponentLink2URL: http://www.analog.com/static/imported-files/data_sheets/AD8131.pdf; ComponentLink3Description: Package Specification; ComponentLink3URL: http://www.analog.com/static/imported-files/packages/PKG_PDF/MSOP%28RM%29/RM_8.pdf; ComponentLink4Description: URL Link1; ComponentLink4URL: Product URL:http://www.analog.com/en/specialty-amplifiers/video-ampsbuffersfilters/ad8131/products/product.html
footprint ADI-RM-8_N (SOP, 8-Leads, Body 3x3mm, Pitch 0.65mm, IPC Medium Density)
footprint ADI-RM-8_L (SOP, 8-Leads, Body 3x3mm, Pitch 0.65mm, IPC High Density)
footprint ADI-RM-8_M (SOP, 8-Leads, Body 3x3mm, Pitch 0.65mm, IPC Low Density)
pins: 1 -DIN (in) "Negative Input.", 2 VOCM (in) "Common-Mode Output Voltage. Voltage applied to this pin sets the common-mode output voltage with a ratio of  1:1. For example, 1 V dc on VOCM will set the dc bias level on +OUT and -OUT to 1 V.", 3 V+ (power) "Positive Supply Voltage.", 4 +OUT (out) "Positive Output. Note: the voltage at -DIN is inverted at +OUT.", 5 -OUT (out) "Negative Output. Note: the voltage at +DIN is inverted at -OUT.", 6 V- (power) "Negative Supply Voltage.", 7 NC "No Connect.", 8 +DIN (in) "Positive Input."

## AD8131ARMZ-REEL
designator U?
Low-Cost, High Speed Differential Driver, 2.7 to 5 V Supply, 400 MHz Bandwidth, Industrial, 8-pin SOP (RM-8), Reel; Manufacturer: Analog Devices; PartNumber: AD8131ARMZ-REEL; -3dB Bandwidth: 400MHz, 210MHz, 385MHz, 200MHz; 0.1 dB Flatness (MHz): 85, 65; Max Pos Supply: 5.5V, 11V; Min Pos Supply: 1.4V, 2.7V; Minimum Gain (Acl): 2; Slew Rate (V/us): 2000, 500, 1600, 450; DatasheetVersion: Rev. B; PackageVersion: Aug-05; PackageReference: RM-8; PackageDescription: 8-Pin Mini Small Outline Package, Body 3 x 3 mm, Pitch 0.65 mm; Supplier 1: Digi-Key; Supplier Part Number 1: AD8131ARMZ-REEL-ND; Supplier 2: Newark; Supplier Part Number 2: 82H2984; Supplier 3: Mouser; Supplier Part Number 3: 584-AD8131ARMZ-R; Packing: Reel; Mounting Technology: Surface Mount; Code_JEDEC: MO-187-AA; ComponentLink1Description: Manufacturer URL; ComponentLink1URL: http://www.analog.com/en/index.html; ComponentLink2Description: Datasheet; ComponentLink2URL: http://www.analog.com/static/imported-files/data_sheets/AD8131.pdf; ComponentLink3Description: Package Specification; ComponentLink3URL: http://www.analog.com/static/imported-files/packages/PKG_PDF/MSOP%28RM%29/RM_8.pdf; ComponentLink4Description: URL Link1; ComponentLink4URL: Product URL:http://www.analog.com/en/specialty-amplifiers/video-ampsbuffersfilters/ad8131/products/product.html
footprint ADI-RM-8_N (SOP, 8-Leads, Body 3x3mm, Pitch 0.65mm, IPC Medium Density)
footprint ADI-RM-8_L (SOP, 8-Leads, Body 3x3mm, Pitch 0.65mm, IPC High Density)
footprint ADI-RM-8_M (SOP, 8-Leads, Body 3x3mm, Pitch 0.65mm, IPC Low Density)
pins: 1 -DIN (in) "Negative Input.", 2 VOCM (in) "Common-Mode Output Voltage. Voltage applied to this pin sets the common-mode output voltage with a ratio of  1:1. For example, 1 V dc on VOCM will set the dc bias level on +OUT and -OUT to 1 V.", 3 V+ (power) "Positive Supply Voltage.", 4 +OUT (out) "Positive Output. Note: the voltage at -DIN is inverted at +OUT.", 5 -OUT (out) "Negative Output. Note: the voltage at +DIN is inverted at -OUT.", 6 V- (power) "Negative Supply Voltage.", 7 NC "No Connect.", 8 +DIN (in) "Positive Input."

## AD8131ARMZ-REEL7
designator U?
Low-Cost, High Speed Differential Driver, 2.7 to 5 V Supply, 400 MHz Bandwidth, Industrial, 8-pin SOP (RM-8), Reel; Manufacturer: Analog Devices; PartNumber: AD8131ARMZ-REEL7; -3dB Bandwidth: 400MHz, 210MHz, 385MHz, 200MHz; 0.1 dB Flatness (MHz): 85, 65; Max Pos Supply: 5.5V, 11V; Min Pos Supply: 1.4V, 2.7V; Minimum Gain (Acl): 2; Slew Rate (V/us): 2000, 500, 1600, 450; DatasheetVersion: Rev. B; PackageVersion: Aug-05; PackageReference: RM-8; PackageDescription: 8-Pin Mini Small Outline Package, Body 3 x 3 mm, Pitch 0.65 mm; Supplier 1: Digi-Key; Supplier Part Number 1: AD8131ARMZ-REEL7TR-ND; Supplier 2: Digi-Key; Supplier Part Number 2: AD8131ARMZ-REEL7CT-ND; Supplier 3: Digi-Key; Supplier Part Number 3: AD8131ARMZ-REEL7DKR-ND; Supplier 4: Newark; Supplier Part Number 4: 12M9043; Supplier 5: Mouser; Supplier Part Number 5: 584-AD8131ARMZ-R7; Packing: Reel; Mounting Technology: Surface Mount; Code_JEDEC: MO-187-AA; ComponentLink1Description: Manufacturer URL; ComponentLink1URL: http://www.analog.com/en/index.html; ComponentLink2Description: Datasheet; ComponentLink2URL: http://www.analog.com/static/imported-files/data_sheets/AD8131.pdf; ComponentLink3Description: Package Specification; ComponentLink3URL: http://www.analog.com/static/imported-files/packages/PKG_PDF/MSOP%28RM%29/RM_8.pdf; ComponentLink4Description: URL Link1; ComponentLink4URL: Product URL:http://www.analog.com/en/specialty-amplifiers/video-ampsbuffersfilters/ad8131/products/product.html
footprint ADI-RM-8_N (SOP, 8-Leads, Body 3x3mm, Pitch 0.65mm, IPC Medium Density)
footprint ADI-RM-8_L (SOP, 8-Leads, Body 3x3mm, Pitch 0.65mm, IPC High Density)
footprint ADI-RM-8_M (SOP, 8-Leads, Body 3x3mm, Pitch 0.65mm, IPC Low Density)
pins: 1 -DIN (in) "Negative Input.", 2 VOCM (in) "Common-Mode Output Voltage. Voltage applied to this pin sets the common-mode output voltage with a ratio of  1:1. For example, 1 V dc on VOCM will set the dc bias level on +OUT and -OUT to 1 V.", 3 V+ (power) "Positive Supply Voltage.", 4 +OUT (out) "Positive Output. Note: the voltage at -DIN is inverted at +OUT.", 5 -OUT (out) "Negative Output. Note: the voltage at +DIN is inverted at -OUT.", 6 V- (power) "Negative Supply Voltage.", 7 NC "No Connect.", 8 +DIN (in) "Positive Input."